# Altium schematic symbol library Коммутационные и контактные соединения.SchLib: 37 symbols
Pins are listed as number, name and electrical type; pins without a type are passive.

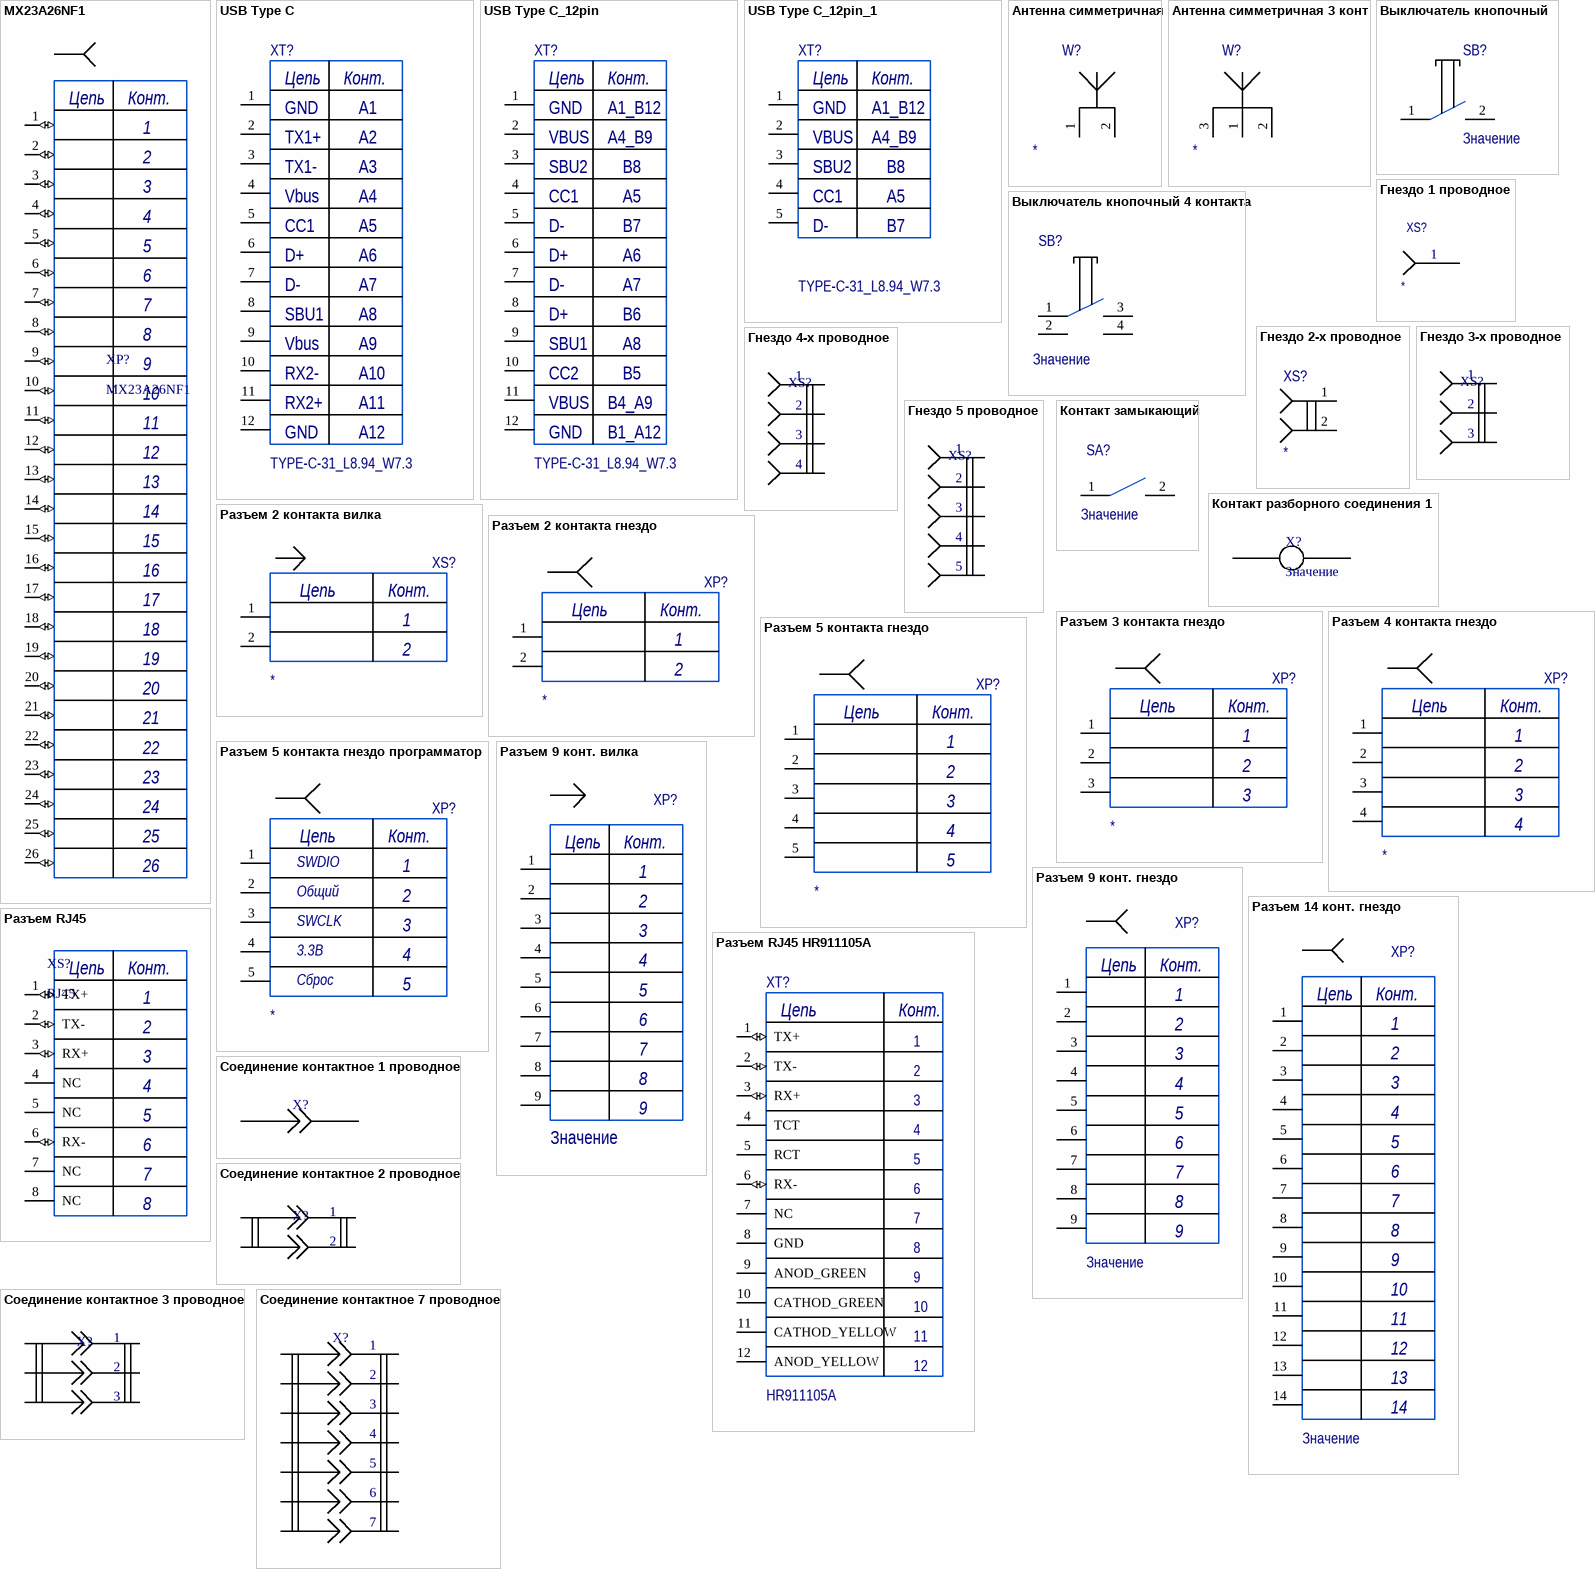
[diagram p0: symbols MX23A26NF1 to Соединение контактное 7 проводное]

## MX23A26NF1
designator XP?
Automotive Connectors 26P Std Pin Header; Part: 656-MX23A26NF1; Value: MX23A26NF1; Alternative part: *; ComponentLink1Description: New link; ComponentLink1URL: https://ru.mouser.com/ProductDetail/JAE-Electronics/MX23A26NF1?qs=6xtm2vwqiW%252BLYdjRr7JLrg%3D%3D
footprint MX23A26NF1
footprint MX23A26NF1_1
pins: 1 (io) "IO", 2 (io) "IO", 3 (io) "IO", 4 (io) "IO", 5 (io) "IO", 6 (io) "IO", 7 (io) "IO", 8 (io) "IO", 9 (io) "IO", 10 (io) "IO", 11 (io) "IO", 12 (io) "IO", 13 (io) "IO", 14 (io) "IO", 15 (io) "IO", 16 (io) "IO", 17 (io) "IO", 18 (io) "IO", 19 (io) "IO", 20 (io) "IO", 21 (io) "IO", 22 (io) "IO", 23 (io) "IO", 24 (io) "IO", 25 (io) "IO", 26 (io) "IO"
text: Цепь; Конт.

## USB Type C
designator XT?, comment TYPE-C-31_L8.94_W7.3
Part: C165948; Value: TYPE-C-31_L8.94_W7.3; Alternative part: *; ComponentLink1Description: Link; ComponentLink1URL: *
footprint USB TYPE C 24 - 1
footprint USB Type C 24 - 2
pins: 1 "OUTPUT", 2 "OUTPUT", 3, 4, 5, 6, 7, 8, 9, 10, 11, 12
text: Цепь; Конт.; GND; A1; TX1+; A2; TX1-; A3; Vbus; A4; CC1; A5; D+; A6; D-; A7; SBU1; A8; A9; RX2-; A10; RX2+; A11; A12

## USB Type C_12pin
designator XT?, comment TYPE-C-31_L8.94_W7.3
Part: C165948; Value: TYPE-C-31_L8.94_W7.3; Alternative part: *; ComponentLink1Description: Link; ComponentLink1URL: *
footprint USB TYPE C 24 - 1
pins: 1 "OUTPUT", 2 "OUTPUT", 3, 4, 5, 6, 7, 8, 9, 10, 11, 12
text: Цепь; Конт.; GND; A1_B12; VBUS; A4_B9; SBU2; B8; CC1; A5; D-; B7; D+; A6; A7; B6; SBU1; A8; CC2; B5; B4_A9; B1_A12

## USB Type C_12pin_1
designator XT?, comment TYPE-C-31_L8.94_W7.3
USB Micro B Female; Part: C165948; Value: TYPE-C-31_L8.94_W7.3; Alternative part: *; ComponentLink1Description: Link; ComponentLink1URL: *
footprint USB TYPE C 24 - 1
pins: 1 "OUTPUT", 2 "OUTPUT", 3, 4, 5
text: Цепь; Конт.; GND; A1_B12; VBUS; A4_B9; SBU2; B8; CC1; A5; D-; B7

## Антенна симметричная
designator W?
Value: *; Part: *; Alternative part: *; ComponentLink1Description: New link; ComponentLink1URL: *; ComponentLink2Description: New link; ComponentLink2URL: *
pins: 1, 2

## Антенна симметричная 3 конт
designator W?
Value: *; Part: *; Alternative part: *; ComponentLink1Description: New link; ComponentLink1URL: *; ComponentLink2Description: New link; ComponentLink2URL: *
pins: 1, 2, 3

## Выключатель кнопочный
designator SB?, comment Значение
Выключатель кнопочный с замыкающим контактом; Value: Значение; Part: *; Alternative part: *; ComponentLink1Description: Link; ComponentLink1URL: *; ComponentLink2Description: Alternative link; ComponentLink2URL: *
pins: 1, 2

## Выключатель кнопочный 4 контакта
designator SB?, comment Значение
Тактовая кнопка; Value: Значение; Part: *; Alternative part: *; ComponentLink1Description: Link; ComponentLink1URL: *; ComponentLink2Description: Alternative link; ComponentLink2URL: *
pins: 1, 2, 3, 4

## Гнездо 1 проводное
designator XS?
Гнездо 1 проводное; Value: *; Part: *; Alternative part: *
pins: 1

## Гнездо 2-x проводное
designator XS?
Гнездо 2-x проводное; Value: *; Part: *; Alternative part: *; ComponentLink1Description: Link; ComponentLink1URL: *; ComponentLink2Description: Alternative link; ComponentLink2URL: *
pins: 1, 2

## Гнездо 3-x проводное
designator XS?  (value not drawn)
Гнездо 3-x проводное; Value: *; Part: *; Alternative part: *
pins: 1, 2, 3

## Гнездо 4-x проводное
designator XS?  (value not drawn)
Гнездо 4-x проводное; Value: *; Part: *; Alternative part: *
pins: 1, 2, 3, 4

## Гнездо 5 проводное
designator XS?  (value not drawn)
Гнездо 5 проводное; Value: *; Part: *; Alternative part: *
pins: 1, 2, 3, 4, 5

## Контакт замыкающий
designator SA?, comment Значение
Контакт коммутационного устройства; Value: Значение; Part: *; Alternative part: *; ComponentLink1Description: Link; ComponentLink1URL: *; ComponentLink2Description: Alternative link; ComponentLink2URL: *
pins: 1, 2

## Контакт разборного соединения 1
designator X?, comment Значение
Контакт разборного соединения 1; Value: Значение; Part: *; Alternative part: *; ComponentLink1Description: Link; ComponentLink1URL: *
pins: 1, 2

## Разъем 2 контакта вилка
designator XS?
Разъем 2 контакта вилка; Part: *; Alternative part: *; ComponentLink1Description: New link; ComponentLink1URL: *; Value: *
pins: 1 "OUTPUT", 2 "OUTPUT"
text: Цепь; Конт.

## Разъем 2 контакта гнездо
designator XP?
Разъем 2 контакта гнездо; Part: *; Alternative part: *; ComponentLink1Description: New link; ComponentLink1URL: *; Value: *
pins: 1 "OUTPUT", 2 "OUTPUT"
text: Цепь; Конт.

## Разъем 3 контакта гнездо
designator XP?
Разъем 2 контакта гнездо; Part: *; Alternative part: *; ComponentLink1Description: New link; ComponentLink1URL: *; Value: *
pins: 1 "OUTPUT", 2 "OUTPUT", 3 "OUTPUT"
text: Цепь; Конт.

## Разъем 4 контакта гнездо
designator XP?
Разъем 2 контакта гнездо; Part: *; Alternative part: *; ComponentLink1Description: New link; ComponentLink1URL: *; Value: *
pins: 1 "OUTPUT", 2 "OUTPUT", 3 "OUTPUT", 4 "OUTPUT"
text: Цепь; Конт.

## Разъем 5 контакта гнездо
designator XP?
Разъем 2 контакта гнездо; Part: *; Alternative part: *; ComponentLink1Description: New link; ComponentLink1URL: *; Value: *
footprint Pin header 5
pins: 1 "OUTPUT", 2 "OUTPUT", 3 "OUTPUT", 4 "OUTPUT", 5 "OUTPUT"
text: Цепь; Конт.

## Разъем 5 контакта гнездо программатор
designator XP?
Разъем 2 контакта гнездо; Part: *; Alternative part: *; ComponentLink1Description: New link; ComponentLink1URL: *; Value: *
footprint Pin header 5
pins: 1 "OUTPUT", 2 "OUTPUT", 3 "OUTPUT", 4 "OUTPUT", 5 "OUTPUT"
text: Цепь; Конт.; SWDIO; Общий; SWCLK; 3.3В; Сброс

## Разъем 9 конт. вилка
designator XP?, comment Значение
Разъем 9 конт. вилка; Part: *; Alternative part: *; Value: Значение
pins: 1 "OUTPUT", 2 "OUTPUT", 3, 4, 5, 6, 7, 8, 9
text: Цепь; Конт.

## Разъем 9 конт. гнездо
designator XP?, comment Значение
Разъем 9 конт. гнездо; Part: *; Alternative part: *; Value: Значение
pins: 1 "OUTPUT", 2 "OUTPUT", 3, 4, 5, 6, 7, 8, 9
text: Цепь; Конт.

## Разъем 14 конт. гнездо
designator XP?, comment Значение
Разъем 14 конт. гнездо; Part: *; Alternative part: *; Value: Значение
pins: 1 "OUTPUT", 2 "OUTPUT", 3, 4, 5, 6, 7, 8, 9, 10, 11, 12, 13, 14
text: Цепь; Конт.

## Разъем RJ45
designator XS?, comment RJ45
Value: Значение; Part: *; Alternative part: *; ComponentLink1Description: New link; ComponentLink1URL: *
pins: 1 TX+ (io) "OUTPUT", 2 TX- (io) "OUTPUT", 3 RX+ (io) "INPUT", 4 NC "RESERVED", 5 NC "RESERVED", 6 RX- (io) "INPUT", 7 NC "RESERVED", 8 NC "RESERVED"
text: Цепь; Конт.

## Разъем RJ45 HR911105A
designator XT?, comment HR911105A
RJ45; Value: HR911105A; Part: *; Alternative part: *; ComponentLink1Description: New link; ComponentLink1URL: *
footprint HR911105A
pins: 1 TX+ (io) "OUTPUT", 2 TX- (io) "OUTPUT", 3 RX+ (io) "INPUT", 4 TCT "RESERVED", 5 RCT "RESERVED", 6 RX- (io) "INPUT", 7 NC "RESERVED", 8 GND "RESERVED", 9 ANOD_GREEN "RESERVED", 10 CATHOD_GREEN "RESERVED", 11 CATHOD_YELLOW "RESERVED", 12 ANOD_YELLOW "RESERVED"
text: Цепь; Конт.

## Соединение контактное 1 проводное
designator X?  (value not drawn)
pins: 1, 2

## Соединение контактное 2 проводное
designator X?  (value not drawn)
pins: 1, 2, 3, 4

## Соединение контактное 3 проводное
designator X?  (value not drawn)
pins: 1, 2, 3, 4, 5, 6

## Соединение контактное 7 проводное
designator X?, comment Соединение контактное 8 проводное  (value not drawn)
pins: 1, 2, 3, 4, 5, 6, 7, 8, 9, 10, 11, 12, 13, 14

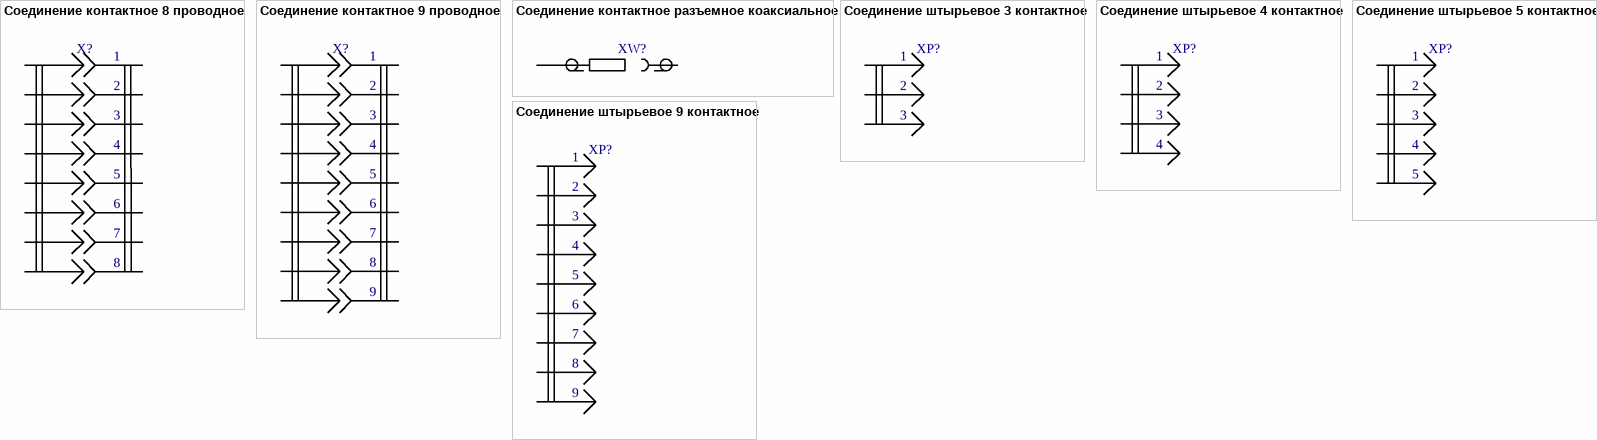
[diagram p1: symbols Соединение контактное 8 проводное to Соединение штырьевое 9 контактное]

## Соединение контактное 8 проводное
designator X?  (value not drawn)
pins: 1, 2, 3, 4, 5, 6, 7, 8, 9, 10, 11, 12, 13, 14, 15, 16

## Соединение контактное 9 проводное
designator X?, comment Соединение контактное 8 проводное  (value not drawn)
pins: 1, 2, 3, 4, 5, 6, 7, 8, 9, 10, 11, 12, 13, 14, 15, 16, 17, 18

## Соединение контактное разъемное коаксиальное
designator XW?  (value not drawn)
pins: 1, 2

## Соединение штырьевое 3 контактное
designator XP?, comment Значение  (value not drawn)
Соединение штырьевое 3 контактное; Value: Значение; Part: *; Alternative part: *
footprint PLS-3 2.54
pins: 1, 2, 3

## Соединение штырьевое 4 контактное
designator XP?, comment Значение  (value not drawn)
Соединение штырьевое 4 контактное; Value: Значение; Part: *; Alternative part: *
pins: 1, 2, 3, 4

## Соединение штырьевое 5 контактное
designator XP?, comment Значение  (value not drawn)
Соединение штырьевое 5 контактное; Value: Значение; Part: *; Alternative part: *
pins: 1, 2, 3, 4, 5

## Соединение штырьевое 9 контактное
designator XP?, comment Значение  (value not drawn)
Соединение штырьевое 9 контактное; Value: Значение; Part: *; Alternative part: *
pins: 1, 2, 3, 4, 5, 6, 7, 8, 9